# Altium integrated library Linear Technology Power Management System Supervisor, Monitor and Control.IntLib: 1611 symbols (part 73 of 100)
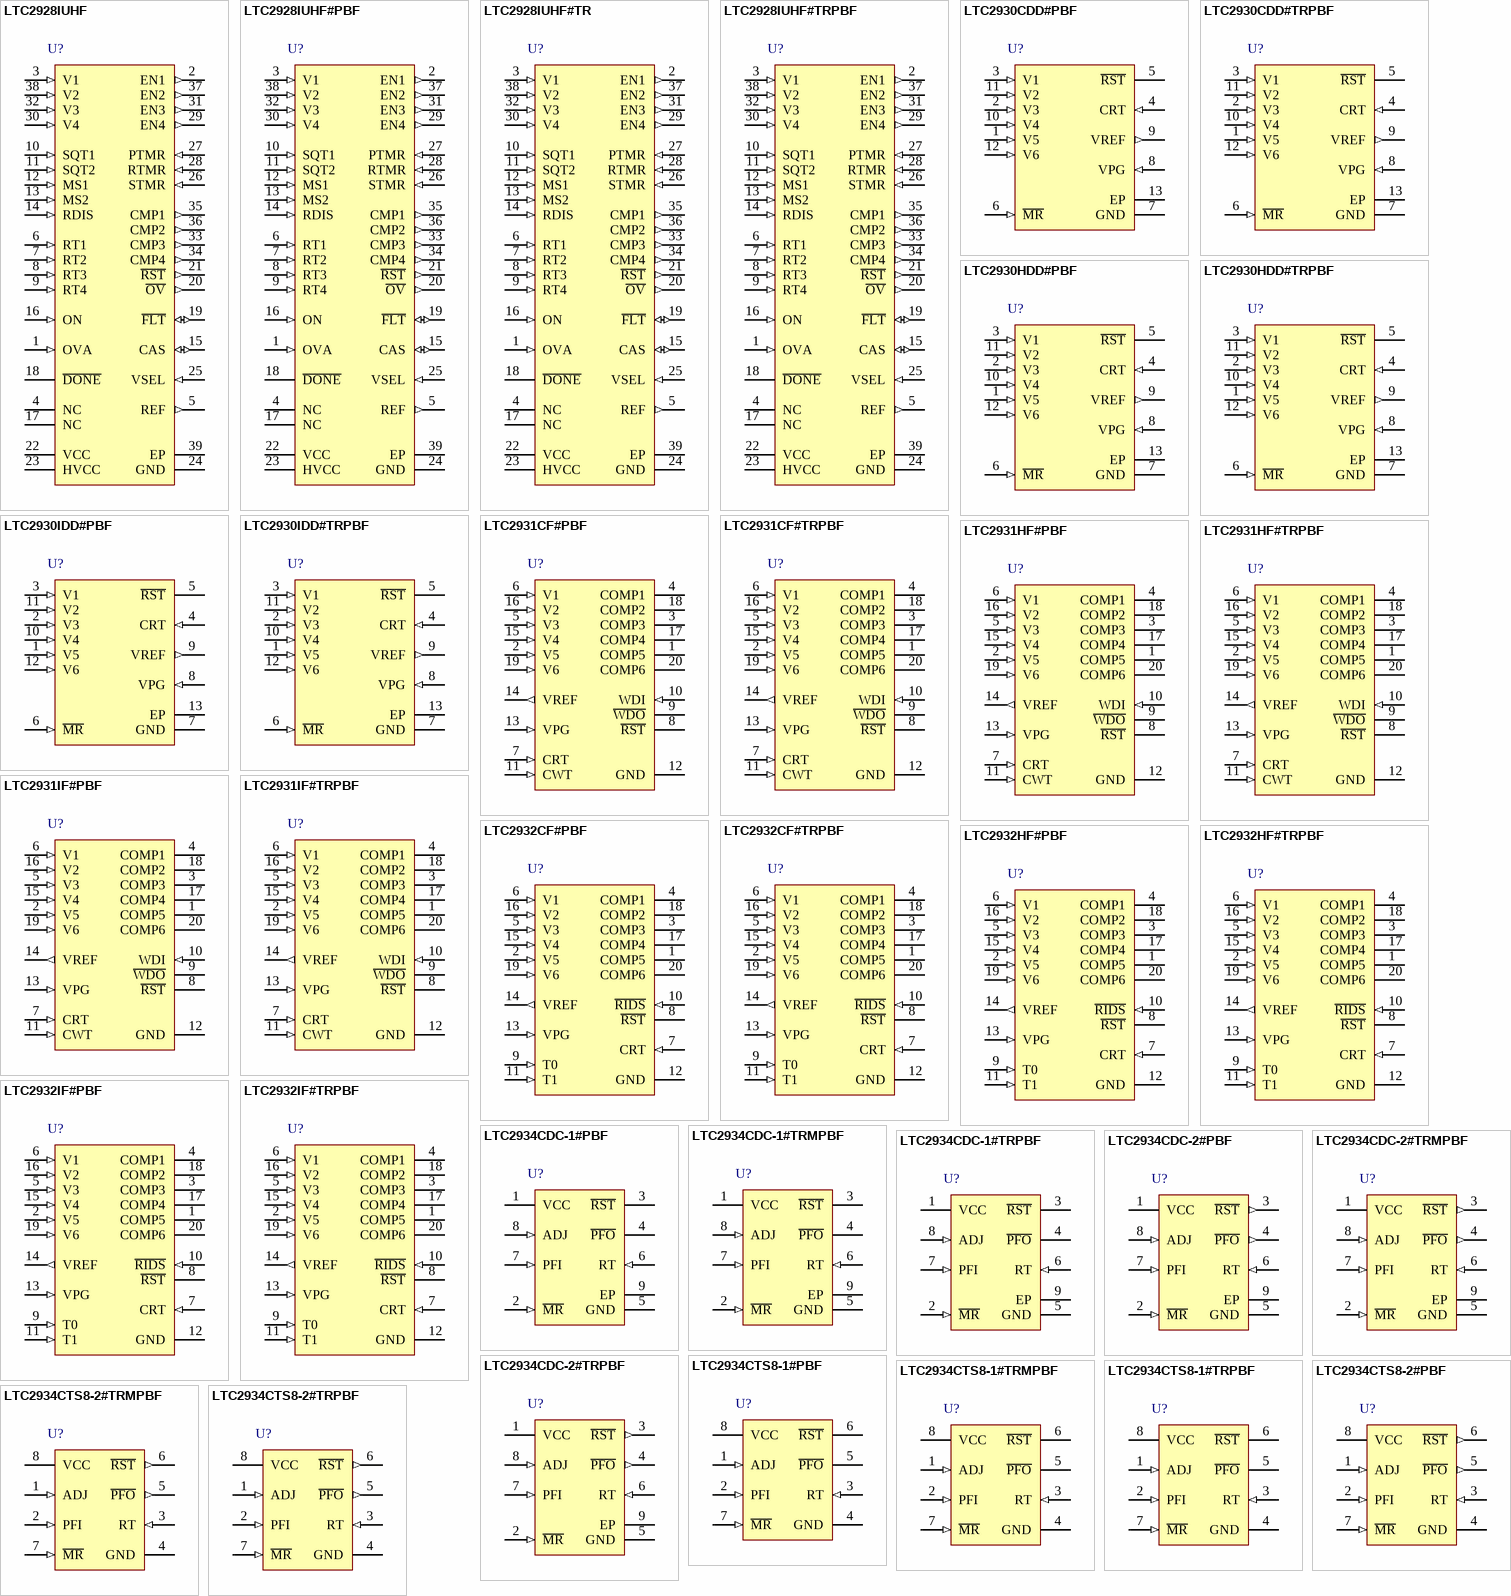
[diagram p117: symbols LTC2928IUHF to LTC2934CTS8-2#TRPBF]

## LTC2931HF#TRPBF
designator U?
Configurable Six Supply Monitor with Adjustable Reset and Watchdog Timers, 20-pin SOP (F-20), -40 to 125 degC, Pb-Free, Tape and Reel; Manufacturer: Linear Technology; PartNumber: LTC2931HF#TRPBF; Number of Supplies(#): 6; DatasheetVersion: Rev. B; PackageVersion: Jun-10; PackageReference: F-20; PackageDescription: 20-Pin Plastic TSSOP, Body 6.5 x 4.4 mm, Pitch 0.65 mm; Supplier 1: Digi-Key; Supplier Part Number 1: LTC2931HF#TRPBF-ND; Packing: Tape and Reel; RoHS: TRUE; Mounting Technology: Surface Mount; ComponentLink1Description: Manufacturer URL; ComponentLink1URL: http://www.linear.com/; ComponentLink2Description: Datasheet; ComponentLink2URL: http://cds.linear.com/docs/en/datasheet/2931fb.pdf; ComponentLink3Description: Package Specification; ComponentLink3URL: http://cds.linear.com/docs/en/packaging/TSSOP_20_05-08-1650.pdf
footprint LT-F-20_N (SOP, 20-Leads, Body 6.6x4.5mm, Pitch 0.65mm, IPC Medium Density)
footprint LT-F-20_L (SOP, 20-Leads, Body 6.6x4.5mm, Pitch 0.65mm, IPC High Density)
footprint LT-F-20_M (SOP, 20-Leads, Body 6.6x4.5mm, Pitch 0.65mm, IPC Low Density)
pins: 1 COMP5 (oc) "Comparator Output 5. Real-time logic output with weak 6uA pull-up to V2. Pulls high when V5 is above reset threshold. May be pulled greater than V2 using external pull-up. Leave open if unused.", 2 V5 (in) "Adjustable Voltage Input 5. High impedance comparator input with 0.5V typical threshold. See Applications Information for details. Tie to V1 if unused.", 3 COMP3 (oc) "Comparator Output 3. Real-time logic output with weak 6uA pull-up to V2. Pulls high when V3 is above its reset threshold. May be pulled greater than V2 using external pull-up. Leave open if unused.", 4 COMP1 (oc) "Comparator Output 1. Real-time logic output with weak 6uA pull-up to V2. Pulls high when V1 is above its reset threshold. May be pulled greater than V2 using external pull-up. Leave open if unused.", 5 V3 (in) "Voltage Input 3. Select from 2.5V, 1.8V, 1.5V, or ADJ. See Applications Information for details. Tie to V1 if unused.", 6 V1 (in) "Voltage Input 1. Select from 5V or 3.3V. See Applications Information for details. The greater of V1 or V2 is also VCC for the device. Bypass this pin to ground with a 0.1uF (or greater) capacitor.", 7 CRT (in) "Reset Timeout Capacitor. Attach an external capacitor (CRT) to GND to set a reset timeout of 2ms/nF. Leaving the pin open generates a minimum delay of approximately 25us. A 47nF capacitor generates a 94ms reset delay time.", 8 ~{RST} (oc) "Reset Output. Logic output with weak 6uA pull-up to V2. Pulls low when any voltage input is below the reset threshold and held low for the configured delay time after all voltage inputs are above threshold. May be pulled (See Datasheet)", 9 ~{WDO} (oc) "Watchdog Output. Logic output with weak 6uA pull-up to V2. May be pulled greater than V2 using external pull-up. The watchdog timer is enabled when R\S\T\ is high. The watchdog output pulls low if the watchdog timer times (See Datasheet)", 10 WDI (in) "Watchdog Input. A logic input whose rising or falling edge must occur on this pin (while R\S\T\ is high) within the selected watchdog time-out period, prohibiting a high-to-low transition on the W\D\O\ pin. The capacitor (See Datasheet)", 11 CWT (in) "Watchdog Timeout Capacitor. Attach a capacitor (CWT) between CWT and GND to set a watchdog time-out period of 20ms/nF. Leaving the pin open generates a minimum timeout of approximately 200us. A 47nF capacitor generates a (See Datasheet)", 12 GND (power) "Ground.", 13 VPG (in) "Threshold Select Input. Connect to an external 1% resistive divider between VREF and GND to select 1 of 16 combinations and/or +/-adjustable voltage thresholds (See Table 1). Do not add capacitance on the VPG pin.", 14 VREF (out) "Buffered Reference Voltage Output. A 1.210V nominal reference used for the mode selection voltage (VPG) and for the offset of negative adjustable applications. The buffered reference can source and sink up to 1mA. The (See Datasheet)", 15 V4 (in) "Voltage Input 4. Select from 1.8V, 1.5V, ADJ or -ADJ. See Applications Information for details. Tie to V1 if unused and confi gured for positive voltage.", 16 V2 (in) "Voltage Input 2. Select from 3.3V, 3V or 2.5V. See Applications Information for details. The greater of V1, V2 is also VCC for the device. Bypass this pin to ground with a 0.1uF (or greater) capacitor. All status outputs are (See Datasheet)", 17 COMP4 (oc) "Comparator Output 4. Real-time logic output with weak 6uA pull-up to V2. Pulls high when V4 is above its reset threshold. May be pulled greater than V2 using external pull-up. Leave open if unused.", 18 COMP2 (oc) "Comparator Output 2. Real-time logic output with weak 6uA pull-up to V2. Pulls high when V2 is above its reset threshold. May be pulled greater than V2 using external pull-up. Leave open if unused.", 19 V6 (in) "Adjustable Voltage Input 6. High impedance comparator input with 0.5V typical threshold. See Applications Information for details. Tie to V1 if unused.", 20 COMP6 (oc) "Comparator Output 6. Real-time logic output with weak 6uA pull-up to V2. Pulls high when V6 is above its reset threshold. May be pulled greater than V2 using external pull-up. Leave open if unused."

## LTC2931IF#PBF
designator U?
Configurable Six Supply Monitor with Adjustable Reset and Watchdog Timers, 20-pin SOP (F-20), -40 to 85 degC, Pb-Free; Manufacturer: Linear Technology; PartNumber: LTC2931IF#PBF; Number of Supplies(#): 6; DatasheetVersion: Rev. B; PackageVersion: Jun-10; PackageReference: F-20; PackageDescription: 20-Pin Plastic TSSOP, Body 6.5 x 4.4 mm, Pitch 0.65 mm; Supplier 1: Digi-Key; Supplier Part Number 1: LTC2931IF#PBF-ND; RoHS: TRUE; Mounting Technology: Surface Mount; ComponentLink1Description: Manufacturer URL; ComponentLink1URL: http://www.linear.com/; ComponentLink2Description: Datasheet; ComponentLink2URL: http://cds.linear.com/docs/en/datasheet/2931fb.pdf; ComponentLink3Description: Package Specification; ComponentLink3URL: http://cds.linear.com/docs/en/packaging/TSSOP_20_05-08-1650.pdf
footprint LT-F-20_N (SOP, 20-Leads, Body 6.6x4.5mm, Pitch 0.65mm, IPC Medium Density)
footprint LT-F-20_L (SOP, 20-Leads, Body 6.6x4.5mm, Pitch 0.65mm, IPC High Density)
footprint LT-F-20_M (SOP, 20-Leads, Body 6.6x4.5mm, Pitch 0.65mm, IPC Low Density)
pins: 1 COMP5 (oc) "Comparator Output 5. Real-time logic output with weak 6uA pull-up to V2. Pulls high when V5 is above reset threshold. May be pulled greater than V2 using external pull-up. Leave open if unused.", 2 V5 (in) "Adjustable Voltage Input 5. High impedance comparator input with 0.5V typical threshold. See Applications Information for details. Tie to V1 if unused.", 3 COMP3 (oc) "Comparator Output 3. Real-time logic output with weak 6uA pull-up to V2. Pulls high when V3 is above its reset threshold. May be pulled greater than V2 using external pull-up. Leave open if unused.", 4 COMP1 (oc) "Comparator Output 1. Real-time logic output with weak 6uA pull-up to V2. Pulls high when V1 is above its reset threshold. May be pulled greater than V2 using external pull-up. Leave open if unused.", 5 V3 (in) "Voltage Input 3. Select from 2.5V, 1.8V, 1.5V, or ADJ. See Applications Information for details. Tie to V1 if unused.", 6 V1 (in) "Voltage Input 1. Select from 5V or 3.3V. See Applications Information for details. The greater of V1 or V2 is also VCC for the device. Bypass this pin to ground with a 0.1uF (or greater) capacitor.", 7 CRT (in) "Reset Timeout Capacitor. Attach an external capacitor (CRT) to GND to set a reset timeout of 2ms/nF. Leaving the pin open generates a minimum delay of approximately 25us. A 47nF capacitor generates a 94ms reset delay time.", 8 ~{RST} (oc) "Reset Output. Logic output with weak 6uA pull-up to V2. Pulls low when any voltage input is below the reset threshold and held low for the configured delay time after all voltage inputs are above threshold. May be pulled (See Datasheet)", 9 ~{WDO} (oc) "Watchdog Output. Logic output with weak 6uA pull-up to V2. May be pulled greater than V2 using external pull-up. The watchdog timer is enabled when R\S\T\ is high. The watchdog output pulls low if the watchdog timer times (See Datasheet)", 10 WDI (in) "Watchdog Input. A logic input whose rising or falling edge must occur on this pin (while R\S\T\ is high) within the selected watchdog time-out period, prohibiting a high-to-low transition on the W\D\O\ pin. The capacitor (See Datasheet)", 11 CWT (in) "Watchdog Timeout Capacitor. Attach a capacitor (CWT) between CWT and GND to set a watchdog time-out period of 20ms/nF. Leaving the pin open generates a minimum timeout of approximately 200us. A 47nF capacitor generates a (See Datasheet)", 12 GND (power) "Ground.", 13 VPG (in) "Threshold Select Input. Connect to an external 1% resistive divider between VREF and GND to select 1 of 16 combinations and/or +/-adjustable voltage thresholds (See Table 1). Do not add capacitance on the VPG pin.", 14 VREF (out) "Buffered Reference Voltage Output. A 1.210V nominal reference used for the mode selection voltage (VPG) and for the offset of negative adjustable applications. The buffered reference can source and sink up to 1mA. The (See Datasheet)", 15 V4 (in) "Voltage Input 4. Select from 1.8V, 1.5V, ADJ or -ADJ. See Applications Information for details. Tie to V1 if unused and confi gured for positive voltage.", 16 V2 (in) "Voltage Input 2. Select from 3.3V, 3V or 2.5V. See Applications Information for details. The greater of V1, V2 is also VCC for the device. Bypass this pin to ground with a 0.1uF (or greater) capacitor. All status outputs are (See Datasheet)", 17 COMP4 (oc) "Comparator Output 4. Real-time logic output with weak 6uA pull-up to V2. Pulls high when V4 is above its reset threshold. May be pulled greater than V2 using external pull-up. Leave open if unused.", 18 COMP2 (oc) "Comparator Output 2. Real-time logic output with weak 6uA pull-up to V2. Pulls high when V2 is above its reset threshold. May be pulled greater than V2 using external pull-up. Leave open if unused.", 19 V6 (in) "Adjustable Voltage Input 6. High impedance comparator input with 0.5V typical threshold. See Applications Information for details. Tie to V1 if unused.", 20 COMP6 (oc) "Comparator Output 6. Real-time logic output with weak 6uA pull-up to V2. Pulls high when V6 is above its reset threshold. May be pulled greater than V2 using external pull-up. Leave open if unused."

## LTC2931IF#TRPBF
designator U?
Configurable Six Supply Monitor with Adjustable Reset and Watchdog Timers, 20-pin SOP (F-20), -40 to 85 degC, Pb-Free, Tape and Reel; Manufacturer: Linear Technology; PartNumber: LTC2931IF#TRPBF; Number of Supplies(#): 6; DatasheetVersion: Rev. B; PackageVersion: Jun-10; PackageReference: F-20; PackageDescription: 20-Pin Plastic TSSOP, Body 6.5 x 4.4 mm, Pitch 0.65 mm; Supplier 1: Digi-Key; Supplier Part Number 1: LTC2931IF#TRPBF-ND; Supplier 2: Newark; Supplier Part Number 2: 75M4510; Packing: Tape and Reel; RoHS: TRUE; Mounting Technology: Surface Mount; ComponentLink1Description: Manufacturer URL; ComponentLink1URL: http://www.linear.com/; ComponentLink2Description: Datasheet; ComponentLink2URL: http://cds.linear.com/docs/en/datasheet/2931fb.pdf; ComponentLink3Description: Package Specification; ComponentLink3URL: http://cds.linear.com/docs/en/packaging/TSSOP_20_05-08-1650.pdf
footprint LT-F-20_N (SOP, 20-Leads, Body 6.6x4.5mm, Pitch 0.65mm, IPC Medium Density)
footprint LT-F-20_L (SOP, 20-Leads, Body 6.6x4.5mm, Pitch 0.65mm, IPC High Density)
footprint LT-F-20_M (SOP, 20-Leads, Body 6.6x4.5mm, Pitch 0.65mm, IPC Low Density)
pins: 1 COMP5 (oc) "Comparator Output 5. Real-time logic output with weak 6uA pull-up to V2. Pulls high when V5 is above reset threshold. May be pulled greater than V2 using external pull-up. Leave open if unused.", 2 V5 (in) "Adjustable Voltage Input 5. High impedance comparator input with 0.5V typical threshold. See Applications Information for details. Tie to V1 if unused.", 3 COMP3 (oc) "Comparator Output 3. Real-time logic output with weak 6uA pull-up to V2. Pulls high when V3 is above its reset threshold. May be pulled greater than V2 using external pull-up. Leave open if unused.", 4 COMP1 (oc) "Comparator Output 1. Real-time logic output with weak 6uA pull-up to V2. Pulls high when V1 is above its reset threshold. May be pulled greater than V2 using external pull-up. Leave open if unused.", 5 V3 (in) "Voltage Input 3. Select from 2.5V, 1.8V, 1.5V, or ADJ. See Applications Information for details. Tie to V1 if unused.", 6 V1 (in) "Voltage Input 1. Select from 5V or 3.3V. See Applications Information for details. The greater of V1 or V2 is also VCC for the device. Bypass this pin to ground with a 0.1uF (or greater) capacitor.", 7 CRT (in) "Reset Timeout Capacitor. Attach an external capacitor (CRT) to GND to set a reset timeout of 2ms/nF. Leaving the pin open generates a minimum delay of approximately 25us. A 47nF capacitor generates a 94ms reset delay time.", 8 ~{RST} (oc) "Reset Output. Logic output with weak 6uA pull-up to V2. Pulls low when any voltage input is below the reset threshold and held low for the configured delay time after all voltage inputs are above threshold. May be pulled (See Datasheet)", 9 ~{WDO} (oc) "Watchdog Output. Logic output with weak 6uA pull-up to V2. May be pulled greater than V2 using external pull-up. The watchdog timer is enabled when R\S\T\ is high. The watchdog output pulls low if the watchdog timer times (See Datasheet)", 10 WDI (in) "Watchdog Input. A logic input whose rising or falling edge must occur on this pin (while R\S\T\ is high) within the selected watchdog time-out period, prohibiting a high-to-low transition on the W\D\O\ pin. The capacitor (See Datasheet)", 11 CWT (in) "Watchdog Timeout Capacitor. Attach a capacitor (CWT) between CWT and GND to set a watchdog time-out period of 20ms/nF. Leaving the pin open generates a minimum timeout of approximately 200us. A 47nF capacitor generates a (See Datasheet)", 12 GND (power) "Ground.", 13 VPG (in) "Threshold Select Input. Connect to an external 1% resistive divider between VREF and GND to select 1 of 16 combinations and/or +/-adjustable voltage thresholds (See Table 1). Do not add capacitance on the VPG pin.", 14 VREF (out) "Buffered Reference Voltage Output. A 1.210V nominal reference used for the mode selection voltage (VPG) and for the offset of negative adjustable applications. The buffered reference can source and sink up to 1mA. The (See Datasheet)", 15 V4 (in) "Voltage Input 4. Select from 1.8V, 1.5V, ADJ or -ADJ. See Applications Information for details. Tie to V1 if unused and confi gured for positive voltage.", 16 V2 (in) "Voltage Input 2. Select from 3.3V, 3V or 2.5V. See Applications Information for details. The greater of V1, V2 is also VCC for the device. Bypass this pin to ground with a 0.1uF (or greater) capacitor. All status outputs are (See Datasheet)", 17 COMP4 (oc) "Comparator Output 4. Real-time logic output with weak 6uA pull-up to V2. Pulls high when V4 is above its reset threshold. May be pulled greater than V2 using external pull-up. Leave open if unused.", 18 COMP2 (oc) "Comparator Output 2. Real-time logic output with weak 6uA pull-up to V2. Pulls high when V2 is above its reset threshold. May be pulled greater than V2 using external pull-up. Leave open if unused.", 19 V6 (in) "Adjustable Voltage Input 6. High impedance comparator input with 0.5V typical threshold. See Applications Information for details. Tie to V1 if unused.", 20 COMP6 (oc) "Comparator Output 6. Real-time logic output with weak 6uA pull-up to V2. Pulls high when V6 is above its reset threshold. May be pulled greater than V2 using external pull-up. Leave open if unused."

## LTC2932CF#PBF
designator U?
Configurable Six Supply Monitor with Adjustable Reset Timer and Supply Tolerance, 20-pin SOP (F-20), 0 to 70 degC, Pb-Free; Manufacturer: Linear Technology; PartNumber: LTC2932CF#PBF; Number of Supplies(#): 6; DatasheetVersion: Rev. B; PackageVersion: Jun-10; PackageReference: F-20; PackageDescription: 20-Pin Plastic TSSOP, Body 6.5 x 4.4 mm, Pitch 0.65 mm; Supplier 1: Digi-Key; Supplier Part Number 1: LTC2932CF#PBF-ND; Supplier 2: Farnell; Supplier Part Number 2: 2295447; Supplier 3: Newark; Supplier Part Number 3: 79M3537; RoHS: TRUE; Mounting Technology: Surface Mount; ComponentLink1Description: Manufacturer URL; ComponentLink1URL: http://www.linear.com/; ComponentLink2Description: Datasheet; ComponentLink2URL: http://cds.linear.com/docs/en/datasheet/2932fb.pdf; ComponentLink3Description: Package Specification; ComponentLink3URL: http://cds.linear.com/docs/en/packaging/TSSOP_20_05-08-1650.pdf
footprint LT-F-20_N (SOP, 20-Leads, Body 6.6x4.5mm, Pitch 0.65mm, IPC Medium Density)
footprint LT-F-20_L (SOP, 20-Leads, Body 6.6x4.5mm, Pitch 0.65mm, IPC High Density)
footprint LT-F-20_M (SOP, 20-Leads, Body 6.6x4.5mm, Pitch 0.65mm, IPC Low Density)
pins: 1 COMP5 (oc) "Comparator Output 5. Real-time logic output with weak 6uA pull-up to V2. Pulls high when V5 is above reset threshold. May be pulled greater than V2 using external pull-up. Leave open if unused.", 2 V5 (in) "Adjustable Voltage Input 5. High impedance comparator input with 0.5V typical threshold. See Applications Information for details. Tie to V1 if unused.", 3 COMP3 (oc) "Comparator Output 3. Real-time logic output with weak 6uA pull-up to V2. Pulls high when V3 is above reset threshold. May be pulled greater than V2 using external pull-up. Leave open if unused.", 4 COMP1 (oc) "Comparator Output 1. Real-time logic output with weak 6uA pull-up to V2. Pulls high when V1 is above reset threshold. May be pulled greater than V2 using external pull-up. Leave open if unused.", 5 V3 (in) "Voltage Input 3. Select from 2.5V, 1.8V, 1.5V, or ADJ. See Applications Information for details. Tie to V1 if unused.", 6 V1 (in) "Voltage Input 1. Select from 5V or 3.3V. See Applications Information for details. The greater of V1 or V2 is also VCC for the device. Bypass this pin to ground with a 0.1uF (or greater) capacitor.", 7 CRT (in) "Reset Timeout Capacitor. Attach an external capacitor (CRT) to GND to set a reset timeout of 2ms/nF. Leaving the pin open generates a minimum delay of approximately 25us. A 47nF capacitor generates a 94ms reset delay time.", 8 ~{RST} (oc) "Reset Output. Logic output with weak 6uA pull-up to V2. Pulls low when any voltage input is below the reset threshold and held low for the configured delay time after all voltage inputs are above threshold. May be pulled (See Datasheet)", 9 T0 (in) "Supply Tolerance Selection Input. Used in conjunction with T1 (Pin 11). See Applications Information for tolerance selection chart (Table 2). Choose from 5%, 7.5%, 10% or 12.5%.", 10 ~{RIDS} (in) "Digital Input for R\S\T\ Disable. A low input on this pin forces R\S\T\ to V2 (or to the pull-up voltage). Useful for determining supply margins without issuing a reset. A weak internal pull-up allows pin to be left open for (See Datasheet)", 11 T1 (in) "Supply Tolerance Selection Input. Used in conjunction with T0 (Pin 9). See Applications Information for tolerance selection chart (Table 2). Choose from 5%, 7.5%, 10% or 12.5%.", 12 GND (power) "Ground.", 13 VPG (in) "Threshold Select Input. Connect to an external 1% resistive divider between VREF and GND to select 1 of 16 combinations and/or +/- adjustable voltage thresholds (see Table 1). Do not add capacitance on the VPG pin.", 14 VREF (out) "Buffered Reference Voltage Output. A 1.210V nominal reference used for the mode selection voltage (VPG) and for the offset of negative adjustable applications. The buffered reference can source and sink up to 1mA. The (See Datasheet)", 15 V4 (in) "Voltage Input 4. Select from 1.8V, 1.5V, ADJ or -ADJ. See Applications Information for details. Tie to V1 if unused and confi gured for positive voltage.", 16 V2 (in) "Voltage Input 2. Select from 3.3V, 3V or 2.5V. See Applications Information for details. The greater of V1, V2 is also VCC for the device. Bypass this pin to ground with a 0.1uF (or greater) capacitor. All status outputs are (See Datasheet)", 17 COMP4 (oc) "Comparator Output 4. Real-time logic output with weak 6uA pull-up to V2. Pulls high when V4 is above reset threshold. May be pulled greater than V2 using external pull-up. Leave open if unused.", 18 COMP2 (oc) "Comparator Output 2. Real-time logic output with weak 6uA pull-up to V2. Pulls high when V2 is above reset threshold. May be pulled greater than V2 using external pull-up. Leave open if unused.", 19 V6 (in) "Adjustable Voltage Input 6. High impedance comparator input with 0.5V typical threshold. See Applications Information for details. Tie to V1 if unused.", 20 COMP6 (oc) "Comparator Output 6. Real-time logic output with weak 6uA pull-up to V2. Pulls high when V6 is above reset threshold. May be pulled greater than V2 using external pull-up. Leave open if unused."

## LTC2932CF#TRPBF
designator U?
Configurable Six Supply Monitor with Adjustable Reset Timer and Supply Tolerance, 20-pin SOP (F-20), 0 to 70 degC, Pb-Free, Tape and Reel; Manufacturer: Linear Technology; PartNumber: LTC2932CF#TRPBF; Number of Supplies(#): 6; DatasheetVersion: Rev. B; PackageVersion: Jun-10; PackageReference: F-20; PackageDescription: 20-Pin Plastic TSSOP, Body 6.5 x 4.4 mm, Pitch 0.65 mm; Supplier 1: Digi-Key; Supplier Part Number 1: LTC2932CF#TRPBF-ND; Packing: Tape and Reel; RoHS: TRUE; Mounting Technology: Surface Mount; ComponentLink1Description: Manufacturer URL; ComponentLink1URL: http://www.linear.com/; ComponentLink2Description: Datasheet; ComponentLink2URL: http://cds.linear.com/docs/en/datasheet/2932fb.pdf; ComponentLink3Description: Package Specification; ComponentLink3URL: http://cds.linear.com/docs/en/packaging/TSSOP_20_05-08-1650.pdf
footprint LT-F-20_N (SOP, 20-Leads, Body 6.6x4.5mm, Pitch 0.65mm, IPC Medium Density)
footprint LT-F-20_L (SOP, 20-Leads, Body 6.6x4.5mm, Pitch 0.65mm, IPC High Density)
footprint LT-F-20_M (SOP, 20-Leads, Body 6.6x4.5mm, Pitch 0.65mm, IPC Low Density)
pins: 1 COMP5 (oc) "Comparator Output 5. Real-time logic output with weak 6uA pull-up to V2. Pulls high when V5 is above reset threshold. May be pulled greater than V2 using external pull-up. Leave open if unused.", 2 V5 (in) "Adjustable Voltage Input 5. High impedance comparator input with 0.5V typical threshold. See Applications Information for details. Tie to V1 if unused.", 3 COMP3 (oc) "Comparator Output 3. Real-time logic output with weak 6uA pull-up to V2. Pulls high when V3 is above reset threshold. May be pulled greater than V2 using external pull-up. Leave open if unused.", 4 COMP1 (oc) "Comparator Output 1. Real-time logic output with weak 6uA pull-up to V2. Pulls high when V1 is above reset threshold. May be pulled greater than V2 using external pull-up. Leave open if unused.", 5 V3 (in) "Voltage Input 3. Select from 2.5V, 1.8V, 1.5V, or ADJ. See Applications Information for details. Tie to V1 if unused.", 6 V1 (in) "Voltage Input 1. Select from 5V or 3.3V. See Applications Information for details. The greater of V1 or V2 is also VCC for the device. Bypass this pin to ground with a 0.1uF (or greater) capacitor.", 7 CRT (in) "Reset Timeout Capacitor. Attach an external capacitor (CRT) to GND to set a reset timeout of 2ms/nF. Leaving the pin open generates a minimum delay of approximately 25us. A 47nF capacitor generates a 94ms reset delay time.", 8 ~{RST} (oc) "Reset Output. Logic output with weak 6uA pull-up to V2. Pulls low when any voltage input is below the reset threshold and held low for the configured delay time after all voltage inputs are above threshold. May be pulled (See Datasheet)", 9 T0 (in) "Supply Tolerance Selection Input. Used in conjunction with T1 (Pin 11). See Applications Information for tolerance selection chart (Table 2). Choose from 5%, 7.5%, 10% or 12.5%.", 10 ~{RIDS} (in) "Digital Input for R\S\T\ Disable. A low input on this pin forces R\S\T\ to V2 (or to the pull-up voltage). Useful for determining supply margins without issuing a reset. A weak internal pull-up allows pin to be left open for (See Datasheet)", 11 T1 (in) "Supply Tolerance Selection Input. Used in conjunction with T0 (Pin 9). See Applications Information for tolerance selection chart (Table 2). Choose from 5%, 7.5%, 10% or 12.5%.", 12 GND (power) "Ground.", 13 VPG (in) "Threshold Select Input. Connect to an external 1% resistive divider between VREF and GND to select 1 of 16 combinations and/or +/- adjustable voltage thresholds (see Table 1). Do not add capacitance on the VPG pin.", 14 VREF (out) "Buffered Reference Voltage Output. A 1.210V nominal reference used for the mode selection voltage (VPG) and for the offset of negative adjustable applications. The buffered reference can source and sink up to 1mA. The (See Datasheet)", 15 V4 (in) "Voltage Input 4. Select from 1.8V, 1.5V, ADJ or -ADJ. See Applications Information for details. Tie to V1 if unused and confi gured for positive voltage.", 16 V2 (in) "Voltage Input 2. Select from 3.3V, 3V or 2.5V. See Applications Information for details. The greater of V1, V2 is also VCC for the device. Bypass this pin to ground with a 0.1uF (or greater) capacitor. All status outputs are (See Datasheet)", 17 COMP4 (oc) "Comparator Output 4. Real-time logic output with weak 6uA pull-up to V2. Pulls high when V4 is above reset threshold. May be pulled greater than V2 using external pull-up. Leave open if unused.", 18 COMP2 (oc) "Comparator Output 2. Real-time logic output with weak 6uA pull-up to V2. Pulls high when V2 is above reset threshold. May be pulled greater than V2 using external pull-up. Leave open if unused.", 19 V6 (in) "Adjustable Voltage Input 6. High impedance comparator input with 0.5V typical threshold. See Applications Information for details. Tie to V1 if unused.", 20 COMP6 (oc) "Comparator Output 6. Real-time logic output with weak 6uA pull-up to V2. Pulls high when V6 is above reset threshold. May be pulled greater than V2 using external pull-up. Leave open if unused."

## LTC2932HF#PBF
designator U?
Configurable Six Supply Monitor with Adjustable Reset Timer and Supply Tolerance, 20-pin SOP (F-20), -40 to 125 degC, Pb-Free; Manufacturer: Linear Technology; PartNumber: LTC2932HF#PBF; Number of Supplies(#): 6; DatasheetVersion: Rev. B; PackageVersion: Jun-10; PackageReference: F-20; PackageDescription: 20-Pin Plastic TSSOP, Body 6.5 x 4.4 mm, Pitch 0.65 mm; Supplier 1: Digi-Key; Supplier Part Number 1: LTC2932HF#PBF-ND; RoHS: TRUE; Mounting Technology: Surface Mount; ComponentLink1Description: Manufacturer URL; ComponentLink1URL: http://www.linear.com/; ComponentLink2Description: Datasheet; ComponentLink2URL: http://cds.linear.com/docs/en/datasheet/2932fb.pdf; ComponentLink3Description: Package Specification; ComponentLink3URL: http://cds.linear.com/docs/en/packaging/TSSOP_20_05-08-1650.pdf
footprint LT-F-20_N (SOP, 20-Leads, Body 6.6x4.5mm, Pitch 0.65mm, IPC Medium Density)
footprint LT-F-20_L (SOP, 20-Leads, Body 6.6x4.5mm, Pitch 0.65mm, IPC High Density)
footprint LT-F-20_M (SOP, 20-Leads, Body 6.6x4.5mm, Pitch 0.65mm, IPC Low Density)
pins: 1 COMP5 (oc) "Comparator Output 5. Real-time logic output with weak 6uA pull-up to V2. Pulls high when V5 is above reset threshold. May be pulled greater than V2 using external pull-up. Leave open if unused.", 2 V5 (in) "Adjustable Voltage Input 5. High impedance comparator input with 0.5V typical threshold. See Applications Information for details. Tie to V1 if unused.", 3 COMP3 (oc) "Comparator Output 3. Real-time logic output with weak 6uA pull-up to V2. Pulls high when V3 is above reset threshold. May be pulled greater than V2 using external pull-up. Leave open if unused.", 4 COMP1 (oc) "Comparator Output 1. Real-time logic output with weak 6uA pull-up to V2. Pulls high when V1 is above reset threshold. May be pulled greater than V2 using external pull-up. Leave open if unused.", 5 V3 (in) "Voltage Input 3. Select from 2.5V, 1.8V, 1.5V, or ADJ. See Applications Information for details. Tie to V1 if unused.", 6 V1 (in) "Voltage Input 1. Select from 5V or 3.3V. See Applications Information for details. The greater of V1 or V2 is also VCC for the device. Bypass this pin to ground with a 0.1uF (or greater) capacitor.", 7 CRT (in) "Reset Timeout Capacitor. Attach an external capacitor (CRT) to GND to set a reset timeout of 2ms/nF. Leaving the pin open generates a minimum delay of approximately 25us. A 47nF capacitor generates a 94ms reset delay time.", 8 ~{RST} (oc) "Reset Output. Logic output with weak 6uA pull-up to V2. Pulls low when any voltage input is below the reset threshold and held low for the configured delay time after all voltage inputs are above threshold. May be pulled (See Datasheet)", 9 T0 (in) "Supply Tolerance Selection Input. Used in conjunction with T1 (Pin 11). See Applications Information for tolerance selection chart (Table 2). Choose from 5%, 7.5%, 10% or 12.5%.", 10 ~{RIDS} (in) "Digital Input for R\S\T\ Disable. A low input on this pin forces R\S\T\ to V2 (or to the pull-up voltage). Useful for determining supply margins without issuing a reset. A weak internal pull-up allows pin to be left open for (See Datasheet)", 11 T1 (in) "Supply Tolerance Selection Input. Used in conjunction with T0 (Pin 9). See Applications Information for tolerance selection chart (Table 2). Choose from 5%, 7.5%, 10% or 12.5%.", 12 GND (power) "Ground.", 13 VPG (in) "Threshold Select Input. Connect to an external 1% resistive divider between VREF and GND to select 1 of 16 combinations and/or +/- adjustable voltage thresholds (see Table 1). Do not add capacitance on the VPG pin.", 14 VREF (out) "Buffered Reference Voltage Output. A 1.210V nominal reference used for the mode selection voltage (VPG) and for the offset of negative adjustable applications. The buffered reference can source and sink up to 1mA. The (See Datasheet)", 15 V4 (in) "Voltage Input 4. Select from 1.8V, 1.5V, ADJ or -ADJ. See Applications Information for details. Tie to V1 if unused and confi gured for positive voltage.", 16 V2 (in) "Voltage Input 2. Select from 3.3V, 3V or 2.5V. See Applications Information for details. The greater of V1, V2 is also VCC for the device. Bypass this pin to ground with a 0.1uF (or greater) capacitor. All status outputs are (See Datasheet)", 17 COMP4 (oc) "Comparator Output 4. Real-time logic output with weak 6uA pull-up to V2. Pulls high when V4 is above reset threshold. May be pulled greater than V2 using external pull-up. Leave open if unused.", 18 COMP2 (oc) "Comparator Output 2. Real-time logic output with weak 6uA pull-up to V2. Pulls high when V2 is above reset threshold. May be pulled greater than V2 using external pull-up. Leave open if unused.", 19 V6 (in) "Adjustable Voltage Input 6. High impedance comparator input with 0.5V typical threshold. See Applications Information for details. Tie to V1 if unused.", 20 COMP6 (oc) "Comparator Output 6. Real-time logic output with weak 6uA pull-up to V2. Pulls high when V6 is above reset threshold. May be pulled greater than V2 using external pull-up. Leave open if unused."

## LTC2932HF#TRPBF
designator U?
Configurable Six Supply Monitor with Adjustable Reset Timer and Supply Tolerance, 20-pin SOP (F-20), -40 to 125 degC, Pb-Free, Tape and Reel; Manufacturer: Linear Technology; PartNumber: LTC2932HF#TRPBF; Number of Supplies(#): 6; DatasheetVersion: Rev. B; PackageVersion: Jun-10; PackageReference: F-20; PackageDescription: 20-Pin Plastic TSSOP, Body 6.5 x 4.4 mm, Pitch 0.65 mm; Supplier 1: Digi-Key; Supplier Part Number 1: LTC2932HF#TRPBF-ND; Packing: Tape and Reel; RoHS: TRUE; Mounting Technology: Surface Mount; ComponentLink1Description: Manufacturer URL; ComponentLink1URL: http://www.linear.com/; ComponentLink2Description: Datasheet; ComponentLink2URL: http://cds.linear.com/docs/en/datasheet/2932fb.pdf; ComponentLink3Description: Package Specification; ComponentLink3URL: http://cds.linear.com/docs/en/packaging/TSSOP_20_05-08-1650.pdf
footprint LT-F-20_N (SOP, 20-Leads, Body 6.6x4.5mm, Pitch 0.65mm, IPC Medium Density)
footprint LT-F-20_L (SOP, 20-Leads, Body 6.6x4.5mm, Pitch 0.65mm, IPC High Density)
footprint LT-F-20_M (SOP, 20-Leads, Body 6.6x4.5mm, Pitch 0.65mm, IPC Low Density)
pins: 1 COMP5 (oc) "Comparator Output 5. Real-time logic output with weak 6uA pull-up to V2. Pulls high when V5 is above reset threshold. May be pulled greater than V2 using external pull-up. Leave open if unused.", 2 V5 (in) "Adjustable Voltage Input 5. High impedance comparator input with 0.5V typical threshold. See Applications Information for details. Tie to V1 if unused.", 3 COMP3 (oc) "Comparator Output 3. Real-time logic output with weak 6uA pull-up to V2. Pulls high when V3 is above reset threshold. May be pulled greater than V2 using external pull-up. Leave open if unused.", 4 COMP1 (oc) "Comparator Output 1. Real-time logic output with weak 6uA pull-up to V2. Pulls high when V1 is above reset threshold. May be pulled greater than V2 using external pull-up. Leave open if unused.", 5 V3 (in) "Voltage Input 3. Select from 2.5V, 1.8V, 1.5V, or ADJ. See Applications Information for details. Tie to V1 if unused.", 6 V1 (in) "Voltage Input 1. Select from 5V or 3.3V. See Applications Information for details. The greater of V1 or V2 is also VCC for the device. Bypass this pin to ground with a 0.1uF (or greater) capacitor.", 7 CRT (in) "Reset Timeout Capacitor. Attach an external capacitor (CRT) to GND to set a reset timeout of 2ms/nF. Leaving the pin open generates a minimum delay of approximately 25us. A 47nF capacitor generates a 94ms reset delay time.", 8 ~{RST} (oc) "Reset Output. Logic output with weak 6uA pull-up to V2. Pulls low when any voltage input is below the reset threshold and held low for the configured delay time after all voltage inputs are above threshold. May be pulled (See Datasheet)", 9 T0 (in) "Supply Tolerance Selection Input. Used in conjunction with T1 (Pin 11). See Applications Information for tolerance selection chart (Table 2). Choose from 5%, 7.5%, 10% or 12.5%.", 10 ~{RIDS} (in) "Digital Input for R\S\T\ Disable. A low input on this pin forces R\S\T\ to V2 (or to the pull-up voltage). Useful for determining supply margins without issuing a reset. A weak internal pull-up allows pin to be left open for (See Datasheet)", 11 T1 (in) "Supply Tolerance Selection Input. Used in conjunction with T0 (Pin 9). See Applications Information for tolerance selection chart (Table 2). Choose from 5%, 7.5%, 10% or 12.5%.", 12 GND (power) "Ground.", 13 VPG (in) "Threshold Select Input. Connect to an external 1% resistive divider between VREF and GND to select 1 of 16 combinations and/or +/- adjustable voltage thresholds (see Table 1). Do not add capacitance on the VPG pin.", 14 VREF (out) "Buffered Reference Voltage Output. A 1.210V nominal reference used for the mode selection voltage (VPG) and for the offset of negative adjustable applications. The buffered reference can source and sink up to 1mA. The (See Datasheet)", 15 V4 (in) "Voltage Input 4. Select from 1.8V, 1.5V, ADJ or -ADJ. See Applications Information for details. Tie to V1 if unused and confi gured for positive voltage.", 16 V2 (in) "Voltage Input 2. Select from 3.3V, 3V or 2.5V. See Applications Information for details. The greater of V1, V2 is also VCC for the device. Bypass this pin to ground with a 0.1uF (or greater) capacitor. All status outputs are (See Datasheet)", 17 COMP4 (oc) "Comparator Output 4. Real-time logic output with weak 6uA pull-up to V2. Pulls high when V4 is above reset threshold. May be pulled greater than V2 using external pull-up. Leave open if unused.", 18 COMP2 (oc) "Comparator Output 2. Real-time logic output with weak 6uA pull-up to V2. Pulls high when V2 is above reset threshold. May be pulled greater than V2 using external pull-up. Leave open if unused.", 19 V6 (in) "Adjustable Voltage Input 6. High impedance comparator input with 0.5V typical threshold. See Applications Information for details. Tie to V1 if unused.", 20 COMP6 (oc) "Comparator Output 6. Real-time logic output with weak 6uA pull-up to V2. Pulls high when V6 is above reset threshold. May be pulled greater than V2 using external pull-up. Leave open if unused."

## LTC2932IF#PBF
designator U?
Configurable Six Supply Monitor with Adjustable Reset Timer and Supply Tolerance, 20-pin SOP (F-20), -40 to 85 degC, Pb-Free; Manufacturer: Linear Technology; PartNumber: LTC2932IF#PBF; Number of Supplies(#): 6; DatasheetVersion: Rev. B; PackageVersion: Jun-10; PackageReference: F-20; PackageDescription: 20-Pin Plastic TSSOP, Body 6.5 x 4.4 mm, Pitch 0.65 mm; Supplier 1: Digi-Key; Supplier Part Number 1: LTC2932IF#PBF-ND; Supplier 2: Farnell; Supplier Part Number 2: 2295448; Supplier 3: Newark; Supplier Part Number 3: 79M3541; RoHS: TRUE; Mounting Technology: Surface Mount; ComponentLink1Description: Manufacturer URL; ComponentLink1URL: http://www.linear.com/; ComponentLink2Description: Datasheet; ComponentLink2URL: http://cds.linear.com/docs/en/datasheet/2932fb.pdf; ComponentLink3Description: Package Specification; ComponentLink3URL: http://cds.linear.com/docs/en/packaging/TSSOP_20_05-08-1650.pdf
footprint LT-F-20_N (SOP, 20-Leads, Body 6.6x4.5mm, Pitch 0.65mm, IPC Medium Density)
footprint LT-F-20_L (SOP, 20-Leads, Body 6.6x4.5mm, Pitch 0.65mm, IPC High Density)
footprint LT-F-20_M (SOP, 20-Leads, Body 6.6x4.5mm, Pitch 0.65mm, IPC Low Density)
pins: 1 COMP5 (oc) "Comparator Output 5. Real-time logic output with weak 6uA pull-up to V2. Pulls high when V5 is above reset threshold. May be pulled greater than V2 using external pull-up. Leave open if unused.", 2 V5 (in) "Adjustable Voltage Input 5. High impedance comparator input with 0.5V typical threshold. See Applications Information for details. Tie to V1 if unused.", 3 COMP3 (oc) "Comparator Output 3. Real-time logic output with weak 6uA pull-up to V2. Pulls high when V3 is above reset threshold. May be pulled greater than V2 using external pull-up. Leave open if unused.", 4 COMP1 (oc) "Comparator Output 1. Real-time logic output with weak 6uA pull-up to V2. Pulls high when V1 is above reset threshold. May be pulled greater than V2 using external pull-up. Leave open if unused.", 5 V3 (in) "Voltage Input 3. Select from 2.5V, 1.8V, 1.5V, or ADJ. See Applications Information for details. Tie to V1 if unused.", 6 V1 (in) "Voltage Input 1. Select from 5V or 3.3V. See Applications Information for details. The greater of V1 or V2 is also VCC for the device. Bypass this pin to ground with a 0.1uF (or greater) capacitor.", 7 CRT (in) "Reset Timeout Capacitor. Attach an external capacitor (CRT) to GND to set a reset timeout of 2ms/nF. Leaving the pin open generates a minimum delay of approximately 25us. A 47nF capacitor generates a 94ms reset delay time.", 8 ~{RST} (oc) "Reset Output. Logic output with weak 6uA pull-up to V2. Pulls low when any voltage input is below the reset threshold and held low for the configured delay time after all voltage inputs are above threshold. May be pulled (See Datasheet)", 9 T0 (in) "Supply Tolerance Selection Input. Used in conjunction with T1 (Pin 11). See Applications Information for tolerance selection chart (Table 2). Choose from 5%, 7.5%, 10% or 12.5%.", 10 ~{RIDS} (in) "Digital Input for R\S\T\ Disable. A low input on this pin forces R\S\T\ to V2 (or to the pull-up voltage). Useful for determining supply margins without issuing a reset. A weak internal pull-up allows pin to be left open for (See Datasheet)", 11 T1 (in) "Supply Tolerance Selection Input. Used in conjunction with T0 (Pin 9). See Applications Information for tolerance selection chart (Table 2). Choose from 5%, 7.5%, 10% or 12.5%.", 12 GND (power) "Ground.", 13 VPG (in) "Threshold Select Input. Connect to an external 1% resistive divider between VREF and GND to select 1 of 16 combinations and/or +/- adjustable voltage thresholds (see Table 1). Do not add capacitance on the VPG pin.", 14 VREF (out) "Buffered Reference Voltage Output. A 1.210V nominal reference used for the mode selection voltage (VPG) and for the offset of negative adjustable applications. The buffered reference can source and sink up to 1mA. The (See Datasheet)", 15 V4 (in) "Voltage Input 4. Select from 1.8V, 1.5V, ADJ or -ADJ. See Applications Information for details. Tie to V1 if unused and confi gured for positive voltage.", 16 V2 (in) "Voltage Input 2. Select from 3.3V, 3V or 2.5V. See Applications Information for details. The greater of V1, V2 is also VCC for the device. Bypass this pin to ground with a 0.1uF (or greater) capacitor. All status outputs are (See Datasheet)", 17 COMP4 (oc) "Comparator Output 4. Real-time logic output with weak 6uA pull-up to V2. Pulls high when V4 is above reset threshold. May be pulled greater than V2 using external pull-up. Leave open if unused.", 18 COMP2 (oc) "Comparator Output 2. Real-time logic output with weak 6uA pull-up to V2. Pulls high when V2 is above reset threshold. May be pulled greater than V2 using external pull-up. Leave open if unused.", 19 V6 (in) "Adjustable Voltage Input 6. High impedance comparator input with 0.5V typical threshold. See Applications Information for details. Tie to V1 if unused.", 20 COMP6 (oc) "Comparator Output 6. Real-time logic output with weak 6uA pull-up to V2. Pulls high when V6 is above reset threshold. May be pulled greater than V2 using external pull-up. Leave open if unused."

## LTC2932IF#TRPBF
designator U?
Configurable Six Supply Monitor with Adjustable Reset Timer and Supply Tolerance, 20-pin SOP (F-20), -40 to 85 degC, Pb-Free, Tape and Reel; Manufacturer: Linear Technology; PartNumber: LTC2932IF#TRPBF; Number of Supplies(#): 6; DatasheetVersion: Rev. B; PackageVersion: Jun-10; PackageReference: F-20; PackageDescription: 20-Pin Plastic TSSOP, Body 6.5 x 4.4 mm, Pitch 0.65 mm; Supplier 1: Digi-Key; Supplier Part Number 1: LTC2932IF#TRPBF-ND; Supplier 2: Newark; Supplier Part Number 2: 79M3542; Packing: Tape and Reel; RoHS: TRUE; Mounting Technology: Surface Mount; ComponentLink1Description: Manufacturer URL; ComponentLink1URL: http://www.linear.com/; ComponentLink2Description: Datasheet; ComponentLink2URL: http://cds.linear.com/docs/en/datasheet/2932fb.pdf; ComponentLink3Description: Package Specification; ComponentLink3URL: http://cds.linear.com/docs/en/packaging/TSSOP_20_05-08-1650.pdf
footprint LT-F-20_N (SOP, 20-Leads, Body 6.6x4.5mm, Pitch 0.65mm, IPC Medium Density)
footprint LT-F-20_L (SOP, 20-Leads, Body 6.6x4.5mm, Pitch 0.65mm, IPC High Density)
footprint LT-F-20_M (SOP, 20-Leads, Body 6.6x4.5mm, Pitch 0.65mm, IPC Low Density)
pins: 1 COMP5 (oc) "Comparator Output 5. Real-time logic output with weak 6uA pull-up to V2. Pulls high when V5 is above reset threshold. May be pulled greater than V2 using external pull-up. Leave open if unused.", 2 V5 (in) "Adjustable Voltage Input 5. High impedance comparator input with 0.5V typical threshold. See Applications Information for details. Tie to V1 if unused.", 3 COMP3 (oc) "Comparator Output 3. Real-time logic output with weak 6uA pull-up to V2. Pulls high when V3 is above reset threshold. May be pulled greater than V2 using external pull-up. Leave open if unused.", 4 COMP1 (oc) "Comparator Output 1. Real-time logic output with weak 6uA pull-up to V2. Pulls high when V1 is above reset threshold. May be pulled greater than V2 using external pull-up. Leave open if unused.", 5 V3 (in) "Voltage Input 3. Select from 2.5V, 1.8V, 1.5V, or ADJ. See Applications Information for details. Tie to V1 if unused.", 6 V1 (in) "Voltage Input 1. Select from 5V or 3.3V. See Applications Information for details. The greater of V1 or V2 is also VCC for the device. Bypass this pin to ground with a 0.1uF (or greater) capacitor.", 7 CRT (in) "Reset Timeout Capacitor. Attach an external capacitor (CRT) to GND to set a reset timeout of 2ms/nF. Leaving the pin open generates a minimum delay of approximately 25us. A 47nF capacitor generates a 94ms reset delay time.", 8 ~{RST} (oc) "Reset Output. Logic output with weak 6uA pull-up to V2. Pulls low when any voltage input is below the reset threshold and held low for the configured delay time after all voltage inputs are above threshold. May be pulled (See Datasheet)", 9 T0 (in) "Supply Tolerance Selection Input. Used in conjunction with T1 (Pin 11). See Applications Information for tolerance selection chart (Table 2). Choose from 5%, 7.5%, 10% or 12.5%.", 10 ~{RIDS} (in) "Digital Input for R\S\T\ Disable. A low input on this pin forces R\S\T\ to V2 (or to the pull-up voltage). Useful for determining supply margins without issuing a reset. A weak internal pull-up allows pin to be left open for (See Datasheet)", 11 T1 (in) "Supply Tolerance Selection Input. Used in conjunction with T0 (Pin 9). See Applications Information for tolerance selection chart (Table 2). Choose from 5%, 7.5%, 10% or 12.5%.", 12 GND (power) "Ground.", 13 VPG (in) "Threshold Select Input. Connect to an external 1% resistive divider between VREF and GND to select 1 of 16 combinations and/or +/- adjustable voltage thresholds (see Table 1). Do not add capacitance on the VPG pin.", 14 VREF (out) "Buffered Reference Voltage Output. A 1.210V nominal reference used for the mode selection voltage (VPG) and for the offset of negative adjustable applications. The buffered reference can source and sink up to 1mA. The (See Datasheet)", 15 V4 (in) "Voltage Input 4. Select from 1.8V, 1.5V, ADJ or -ADJ. See Applications Information for details. Tie to V1 if unused and confi gured for positive voltage.", 16 V2 (in) "Voltage Input 2. Select from 3.3V, 3V or 2.5V. See Applications Information for details. The greater of V1, V2 is also VCC for the device. Bypass this pin to ground with a 0.1uF (or greater) capacitor. All status outputs are (See Datasheet)", 17 COMP4 (oc) "Comparator Output 4. Real-time logic output with weak 6uA pull-up to V2. Pulls high when V4 is above reset threshold. May be pulled greater than V2 using external pull-up. Leave open if unused.", 18 COMP2 (oc) "Comparator Output 2. Real-time logic output with weak 6uA pull-up to V2. Pulls high when V2 is above reset threshold. May be pulled greater than V2 using external pull-up. Leave open if unused.", 19 V6 (in) "Adjustable Voltage Input 6. High impedance comparator input with 0.5V typical threshold. See Applications Information for details. Tie to V1 if unused.", 20 COMP6 (oc) "Comparator Output 6. Real-time logic output with weak 6uA pull-up to V2. Pulls high when V6 is above reset threshold. May be pulled greater than V2 using external pull-up. Leave open if unused."

## LTC2934CDC-1#PBF
designator U?
Ultra-Low Power Adjustable Supervisor with Power-Fail Output, 8-pin SON (DC8-8), 0 to 70 degC, Pb-Free; Manufacturer: Linear Technology; PartNumber: LTC2934CDC-1#PBF; Number of Supplies(#): 1; PackageVersion: Rev. A, 06/2010; PackageReference: DC8-8; PackageDescription: 8-Pin Plastic DFN, Body 2 x 2 mm, Pitch 0.45 mm; RoHS: TRUE; Mounting Technology: Surface Mount; ComponentLink1Description: Manufacturer URL; ComponentLink1URL: http://www.linear.com/; ComponentLink2Description: Datasheet; ComponentLink2URL: http://cds.linear.com/docs/en/datasheet/2934f.pdf; ComponentLink3Description: Package Specification; ComponentLink3URL: http://www.linear.com/docs/en/packaging/DFN_8_05-08-1719.pdf
footprint LT-DC8-8_V (SON, 8-Leads, Body 2x2mm, Pitch 0.45mm, Thermal Pad 1.37x0.64mm)
pins: 1 VCC (power) "Power Supply Input. Bypass VCC with 0.1uF to  GND.", 2 ~{MR} (in) "Manual Reset Input. Attach a push-button switch  between this input and ground. A logic low on this input  pulls R\S\T\ low. When the M\R\ input returns to logic high,  R\S\T\ returns high after the reset timer has expired. (See Datasheet)", 3 ~{RST} (oc) "Reset Output. R\S\T\ pulls low when monitored voltage falls below the reset threshold. R\S\T\ is released after  monitored voltage exceeds the reset threshold plus 5%  hysteresis and after reset timer has expired. R\S\T\ is (See Datasheet)", 4 ~{PFO} (oc) "Power-Fail Output. P\F\O\ pulls low when monitored  voltage falls below the power-fail (PFI) threshold. P\F\O\ is released when the PFI voltage rises above the powerfail threshold by 2.5%. P\F\O\ is available with open-drain (See Datasheet)", 5 GND (power) "Device Ground.", 6 RT (in) "Reset Timeout Selection Input. Tie to GND or VCC for  desired reset timeout. Tie low for 15ms delay or high for  200ms delay.", 7 PFI (in) "Power-Fail Threshold Adjustment Input. Tie to  resistive divider between monitored voltage and GND  to configure desired power-fail threshold. See the  Applications Information section for details. Tie to VCC or  GND if (See Datasheet)", 8 ADJ (in) "Reset Threshold Adjustment Input. Tie to resistive  divider between monitored voltage and GND to configure  desired reset threshold. See the Applications Information  section for details. Tie to VCC if unused.", 9 EP (power) "Exposed Pad may be left ?oating or connected to device ground."